# Altium footprint library Footprint_Package_layout.PcbLib: 15 footprints
Each footprint in its own frame and in the unit in brackets; x right, y up, seen from the top. Pads: shape width x height; smd on the part's side, far side on the other; paste and mask are expansions set on the pad; w line width, h text height; cw(c..) or ccw(c..) is an arc to the next point about the centre after c.
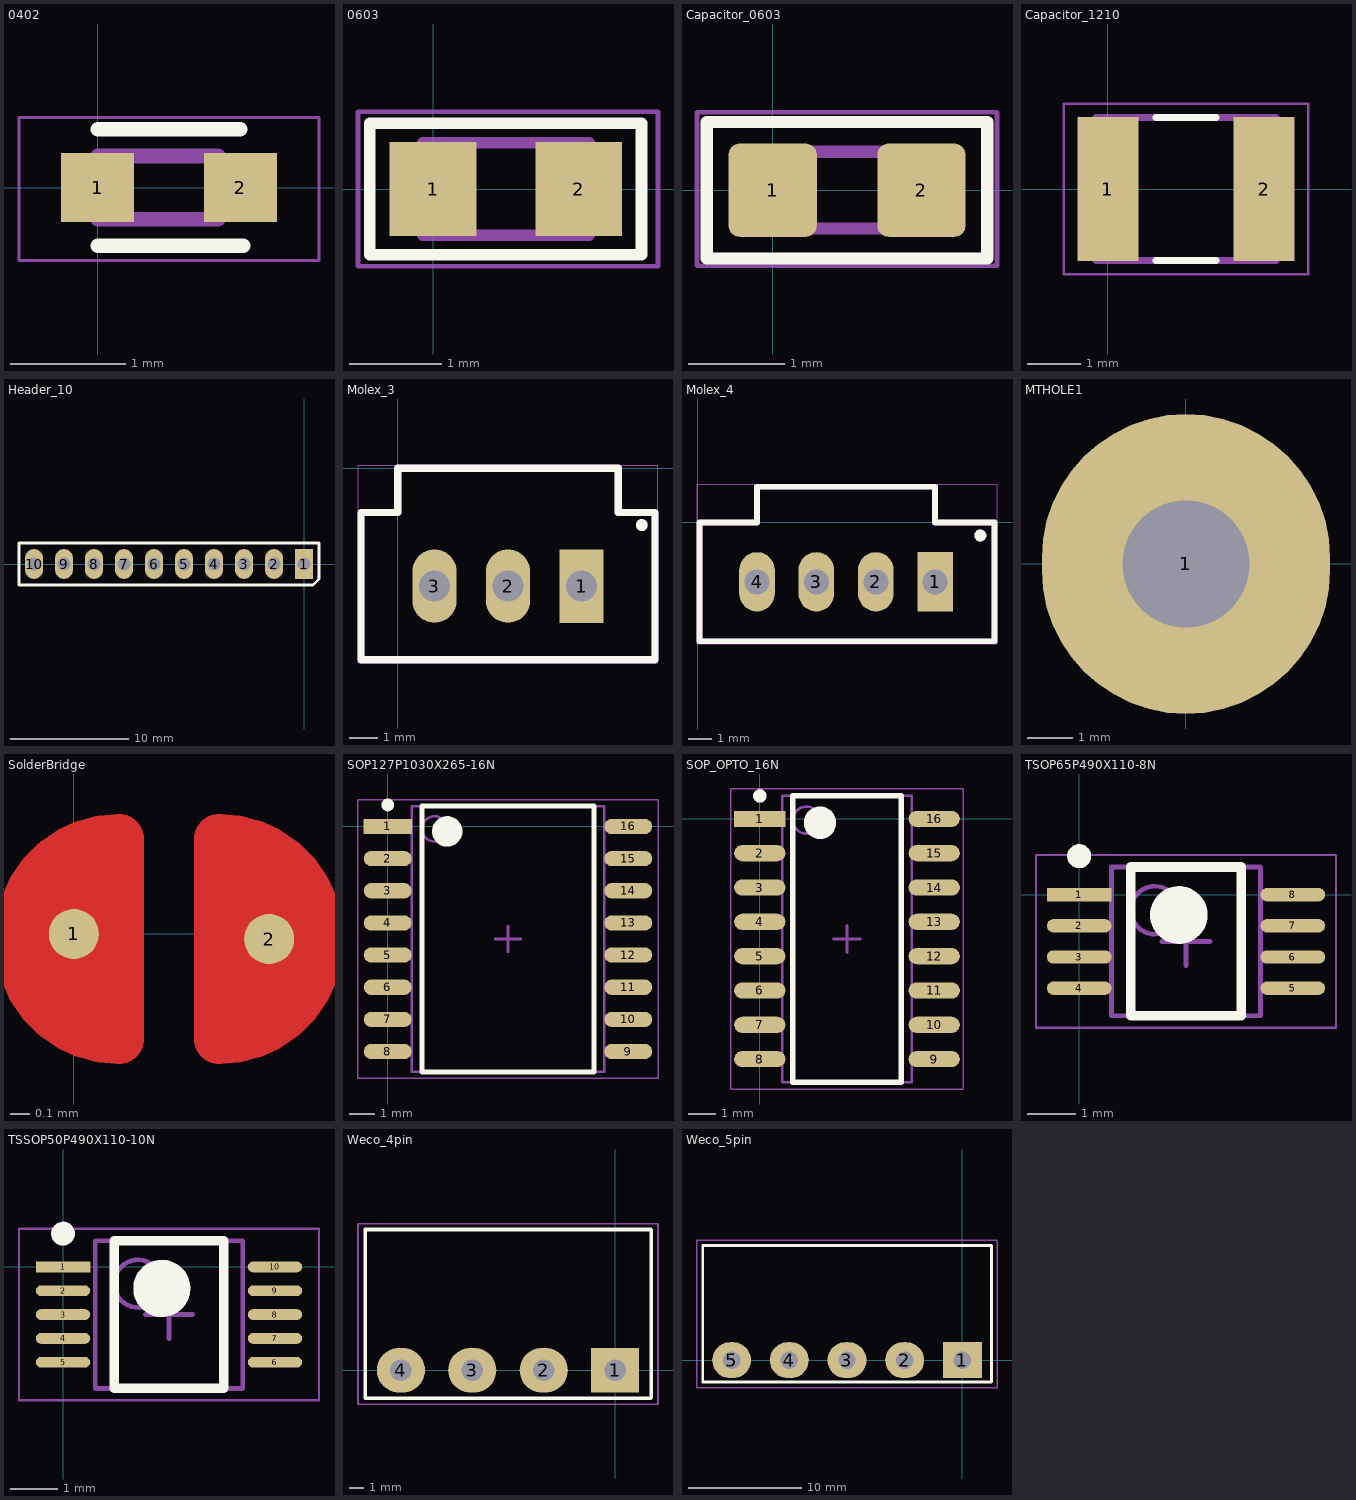
[diagram p0: the footprints below, top view; thin cyan lines are the x and y axes]

## 0402 [mm]
pads (2):
  rect 0.635x0.6 smd: 1(0,0) 2(1.245,0)
Top Overlay:
  lines w0.127: 0,-0.508 1.27,-0.508 ; 0,0.508 1.245,0.508
Mechanical 13:
  lines w0.127: 0,-0.275 0,0.275 ; 0,-0.275 1.05,-0.275 ; 0,-0.275 0,0.275 ; 0,0.275 1.05,0.275 ; 1.05,-0.275 1.05,0.275 ; 1.05,-0.275 1.05,0.275
Mechanical 15:
  lines w0.025: -0.686,-0.635 -0.686,0.61 1.93,0.61 1.93,-0.635 -0.686,-0.635
3D body "0402.STEP": height 0.41, standoff 0, extent 0.06,-0.275 1.21,0.275

## 0603 [mm]
pads (2):
  rect 0.94x1.02 smd: 1(0,0) 2(1.58,0)
Top Overlay:
  lines w0.127: -0.686,-0.711 2.261,-0.711 2.261,0.711 1.6,0.711 -0.686,0.711 -0.686,-0.711
Mechanical 13:
  lines w0.127: -0.11,-0.5 1.69,-0.5 ; -0.11,-0.5 -0.11,0.5 ; -0.11,-0.5 -0.11,0.5 ; -0.11,0.5 1.69,0.5 ; 1.69,-0.5 1.69,0.5 ; 1.69,-0.5 1.69,0.5
Mechanical 15:
  lines w0.05: -0.813,-0.838 2.438,-0.838 2.438,0.838 -0.813,0.838 -0.813,-0.838
3D body "0603.step": height 0.45, standoff 0, extent 0,-0.4 1.6,0.4

## Capacitor_0603 [mm]
pads (2):
  rrect25% 0.92x0.97 smd: 1(0,0) 2(1.55,0)
Top Overlay:
  lines w0.127: -0.686,-0.711 2.235,-0.711 2.235,0.711 -0.686,0.711 -0.686,-0.711
Mechanical 13:
  lines w0.127: -0.025,-0.4 -0.025,0.4 1.575,0.4 1.575,-0.4 -0.025,-0.4
Mechanical 15:
  lines w0.05: -0.787,-0.787 -0.787,0.813 2.337,0.813 2.337,-0.787 -0.787,-0.787
3D body "capacitor_0603.STEP": height 0.81, standoff 0.01, extent -0.013,-0.432 1.587,0.438

## Capacitor_1210 [mm]
pads (2):
  rect 1.16x2.72 smd: 1(0,0) 2(2.95,0)
Top Overlay:
  lines w0.127: 0.905,-1.35 2.045,-1.35 ; 0.905,1.35 2.045,1.35
Mechanical 13:
  lines w0.127: -0.225,-1.35 3.175,-1.35 3.175,1.35 -0.225,1.35 -0.225,-1.35
Mechanical 15:
  lines w0.05: -0.833,-1.608 3.783,-1.608 3.783,1.608 -0.833,1.608 -0.833,-1.608
3D body "Capacitor_1210.stp": height 2.35, standoff 0.05, extent -0.373,-1.45 3.327,1.45

## Header_10 [mil]
pads (10):
  rect 60x100 / inner round 60 / far side rect 60x100 hole 42: 1(0,0)
  oval 60x100 / inner round 60 / far side oval 60x100 hole 42: 2(-100,0) 3(-200,0) 4(-300,0) 5(-400,0) 6(-500,0) 7(-600,0) 8(-700,0) 9(-800,0) 10(-900,0)
Top Overlay:
  lines w10: -950,-70 -950,70 50,70 50,-50 30,-70 -950,-70
Mechanical 1:
  lines w1: -950,-50 -950,50 ; 50,-50 50,50
3D body "Hearder_10.stp": height 91.93, standoff -385.12, extent -950,-48.21 50,50.21

## Molex_3 [mil]
pads (3):
  rect 60x100 / inner round 60 / far side rect 60x100 hole 42: 1(250,-160)
  oval 60x100 / inner round 60 / far side oval 60x100 hole 42: 2(150,-160) 3(50,-160)
Top Overlay:
  circle w10: c331.96,-77 r3.04
  lines w10: -50,-260 350,-260 350,-60 300,-60 300,0 0,0 0,-60 -50,-60 -50,-260
Mechanical 1:
  lines w10: -50,-260 350,-260 350,-60 300,-60 300,0 0,0 0,-60 -50,-60 -50,-260
Mechanical 13:
  circle w10: c331.96,-77 r2.89
Mechanical 15:
  lines w1: -54,-264 -54,4 354,4 354,-264 -54,-264
3D body "Molex_3.step": height 466, standoff -129, extent -50,-260 350,0

## Molex_4 [mil]
pads (4):
  rect 60x100 / inner round 60 / far side rect 60x100 hole 42: 1(400,-100)
  oval 60x100 / inner round 60 / far side oval 60x100 hole 42: 2(300,-100) 3(200,-100) 4(100,-100)
Top Overlay:
  circle w10: c476,-22 r5
  lines w10: 3,-200 500,-200 500,0 400,0 400,60 100,60 100,0 3,0 3,-200
Mechanical 1:
  circle w10: c476,-22 r5
  lines w10: 3,-200 3,0 100,0 100,60 400,60 400,0 500,0 500,-200 3,-200
Mechanical 15:
  lines w1: -1,-204 504,-204 504,64 -1,64 -1,-204
3D body "Molex_4.stp": height 466, standoff -128.88, extent 3.15,-200 500,59.84

## MTHOLE1 [mil]
height 1
pads (1):
  oval 250x260 hole 110: 1(0,0)

## SolderBridge [mil]
pads (2):
  round 10 smd mask+0: 1(0,0) 2(39,-1)
Top Layer:
  region: -4,-20 -9,-13 -9,7 0,16 9,16 9,-24
  region: 42,15 47,8 47,-12 38,-21 29,-21 29,19
  lines w10: 9,-21 cw(c9.05,-1) 9,19 9,-21 ; 29,-21 ccw(c28.95,-1) 29,19 29,-21
Top Solder:
  rectangle: 9,-26.5 29,24.5
  lines w29: 9.02,-12 cw(c9.05,-1) 9.02,10 ; 29,-12 ccw(c28.97,-1) 29,10

## SOP127P1030X265-16N [mm] "SOP, 16-Leads, Body 10.30x7.50mm, Pitch 1.27mm, IPC Medium Density"
height 2.65
pads (16):
  rect 1.9x0.6 smd: 1(0,0)
  oval 1.9x0.6 smd: 2(0,-1.27) 3(0,-2.54) 4(0,-3.81) 5(0,-5.08) 6(0,-6.35) 7(0,-7.62) 8(0,-8.89) 9(9.5,-8.89) 10(9.5,-7.62) 11(9.5,-6.35) 12(9.5,-5.08) 13(9.5,-3.81) 14(9.5,-2.54) 15(9.5,-1.27) 16(9.5,0)
Top Overlay:
  circle w0.6: c2.35,-0.195 r0.3
  circle w0.25: c0,0.85 r0.125
  lines w0.2: 1.35,-9.695 8.15,-9.695 8.15,0.805 1.35,0.805 1.35,-9.695
Mechanical 13:
  circle w0.1: c1.85,-0.095 r0.5
  lines w0.1: 0.95,-9.695 8.55,-9.695 8.55,0.805 0.95,0.805 0.95,-9.695
Mechanical 15:
  lines w0.05: -1.175,-9.945 10.675,-9.945 10.675,1.055 -1.175,1.055 -1.175,-9.945
  lines w0.1: 4.25,-4.445 5.25,-4.445 ; 4.75,-4.945 4.75,-3.945
3D body "SOP127P1030X265-16N.step": height 2.65, standoff 0, extent -0.4,-9.695 9.9,0.805

## SOP_OPTO_16N [mm] "SOP, 16-Leads, Body 10.35x4.60mm, Pitch 1.27mm, IPC Medium Density"
height 2.1
pads (16):
  rect 1.9x0.6 smd: 1(0,0)
  oval 1.9x0.6 smd: 2(0,-1.27) 3(0,-2.54) 4(0,-3.81) 5(0,-5.08) 6(0,-6.35) 7(0,-7.62) 8(0,-8.89) 9(6.45,-8.89) 10(6.45,-7.62) 11(6.45,-6.35) 12(6.45,-5.08) 13(6.45,-3.81) 14(6.45,-2.54) 15(6.45,-1.27) 16(6.45,0)
Top Overlay:
  circle w0.25: c0,0.85 r0.125
  circle w0.6: c2.225,-0.145 r0.3
  lines w0.2: 1.225,-9.745 1.225,0.855 5.225,0.855 5.225,-9.745 1.225,-9.745
Mechanical 13:
  circle w0.1: c1.725,-0.045 r0.5
  lines w0.1: 0.825,-9.745 0.825,0.855 5.625,0.855 5.625,-9.745 0.825,-9.745
Mechanical 15:
  lines w0.05: -1.075,-9.995 -1.075,1.105 7.525,1.105 7.525,-9.995 -1.075,-9.995
  lines w0.1: 2.725,-4.445 3.725,-4.445 ; 3.225,-4.945 3.225,-3.945
3D body "SOP_OPTO_16N.step": height 2.1, standoff 0, extent -0.275,-9.745 6.725,0.855

## TSOP65P490X110-8N [mm] "TSOP, 8-Leads, Body 3.00x3.00mm, Pitch 0.65mm, IPC Medium Density"
height 1.1
pads (8):
  rect 1.35x0.279 smd: 1(0,0)
  oval 1.35x0.279 smd: 2(0,-0.65) 3(0,-1.3) 4(0,-1.95) 5(4.45,-1.95) 6(4.45,-1.3) 7(4.45,-0.65) 8(4.45,0)
Top Overlay:
  circle w0.6: c2.075,-0.425 r0.3
  circle w0.25: c0,0.8 r0.125
  lines w0.2: 1.075,-2.525 3.375,-2.525 3.375,0.575 1.075,0.575 1.075,-2.525
Mechanical 13:
  circle w0.1: c1.575,-0.325 r0.5
  lines w0.1: 0.675,-2.525 3.775,-2.525 3.775,0.575 0.675,0.575 0.675,-2.525
Mechanical 15:
  lines w0.05: -0.9,-2.775 5.35,-2.775 5.35,0.825 -0.9,0.825 -0.9,-2.775
  lines w0.1: 1.725,-0.975 2.725,-0.975 ; 2.225,-1.475 2.225,-0.475
3D body "TSOP65P490X110-8N.step": height 1.1, standoff 0, extent -0.228,-2.525 4.677,0.575

## TSSOP50P490X110-10N [mil] "TSSOP, 10-Leads, Body 3.00x3.00mm, Pitch 0.50mm, IPC Medium Density"
height 43.31
pads (10):
  rect 45x9 smd: 1(0,0)
  oval 45x9 smd: 2(0,-19.68) 3(0,-39.37) 4(0,-59.06) 5(0,-78.74) 6(175.2,-78.74) 7(175.2,-59.06) 8(175.2,-39.37) 9(175.2,-19.68) 10(175.2,0)
Top Overlay:
  circle w23.62: c81.69,-17.72 r11.81
  circle w9.84: c0,27.56 r4.92
  lines w7.87: 42.32,-100.39 132.87,-100.39 132.87,21.65 42.32,21.65 42.32,-100.39
Mechanical 13:
  circle w3.94: c62.01,-13.78 r19.68
  lines w3.94: 26.57,-100.39 148.62,-100.39 148.62,21.65 26.57,21.65 26.57,-100.39
Mechanical 15:
  lines w1.97: -36.42,-110.24 211.61,-110.24 211.61,31.5 -36.42,31.5 -36.42,-110.24
  lines w3.94: 67.91,-39.37 107.28,-39.37 ; 87.6,-59.06 87.6,-19.68
3D body "TSSOP50P490X110-10N.step": height 43.31, standoff 0, extent -8.86,-100.39 184.06,21.65

## Weco_4pin [mil]
pads (4):
  rect 135x125 / inner round 60 / far side rect 135x125 hole 60: 1(0,0)
  oval 135x125 / inner round 60 / far side oval 135x125 hole 60: 2(-200,0) 3(-400,0) 4(-600,0)
Top Overlay:
  lines w10: -700,-78 100,-78 101,-77 101,393 100,394 -700,394 -700,-78
Mechanical 15:
  lines w5: -720,-95 -720,410 120,410 120,-95 -720,-95
3D body "121-M-111-04.STEP": height 331.85, standoff -169.14, extent -700,-78.22 100,394.22

## Weco_5pin [mil]
pads (5):
  rect 135x125 / inner round 60 / far side rect 135x125 hole 60: 1(0,0)
  oval 135x125 / inner round 60 / far side oval 135x125 hole 60: 2(-200,0) 3(-400,0) 4(-600,0) 5(-800,0)
Top Overlay:
  lines w10: -900,-76 -900,397 101,397 101,-76 -900,-76
Mechanical 15:
  lines w5: -920,-95 -920,415 120,415 120,-95 -920,-95
3D body "121-M-111-05.STEP": height 331.85, standoff -169.14, extent -900,-76.22 100,396.22